# Altium footprint library my_pcblib.PcbLib: 8 footprints
Each footprint in its own frame and in the unit in brackets; x right, y up, seen from the top. Pads: shape width x height; smd on the part's side, far side on the other; paste and mask are expansions set on the pad; w line width, h text height; cw(c..) or ccw(c..) is an arc to the next point about the centre after c.
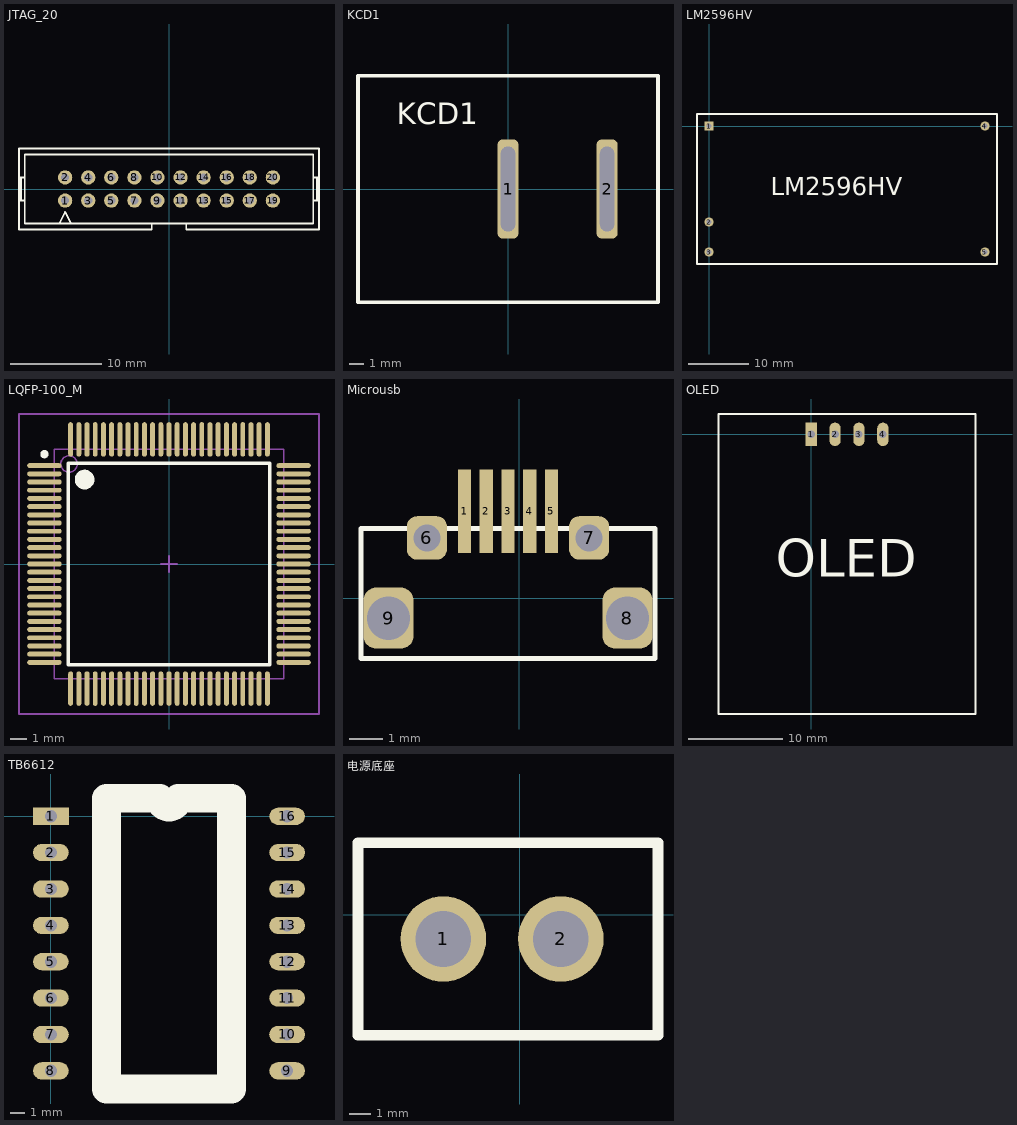
[diagram p0: the footprints below, top view; thin cyan lines are the x and y axes]

## JTAG_20 [mil]
pads (20):
  round 62 hole 35: 1(-450,-50) 2(-450,50) 3(-350,-50) 4(-350,50) 5(-250,-50) 6(-250,50) 7(-150,-50) 8(-150,50) 9(-50,-50) 10(-50,50) 11(50,-50) 12(50,50) 13(150,-50) 14(150,50) 15(250,-50) 16(250,50) 17(350,-50) 18(350,50) 19(450,-50) 20(450,50)
Top Overlay:
  lines w8: -650,-50 -625,-50 ; -650,50 -625,50 ; -641.67,-50 -641.67,50 ; -475,-150 -450,-100 -425,-150 ; -339.57,-175 -75,-175 -75,-150 ; -325,-175 -650,-175 -650,175 650,175 650,-175 325,-175 75,-175 75,-150 ; 625,-50 650,-50 ; 625,50 650,50 ; 641.67,-50 641.67,50 ; -75,-150 -625,-150 -625,150 625,150 625,-150 75,-150 ; -75,-150 75,-150

## KCD1 [mm]
pads (2):
  rrect50% 1.5x7 hole 6 slot 1 at 0 deg: 1(0,0) 2(7,0)
Top Overlay:
  lines w0.254: -10.6,-8 10.6,-8 10.6,8 -10.6,8 -10.6,-8
  text "KCD1" at -7.874,4.572 h1.52

## LM2596HV [mm]
pads (5):
  rect 1.5x1.5 hole 0.9: 1(0,0)
  round 1.5 hole 0.9: 2(0,-16) 3(0,-21) 4(46,0) 5(46,-21)
Top Overlay:
  lines w0.254: -2,-23 48,-23 48,2 -2,2 -2,-23
  text "LM2596HV" at 10.287,-11.557 h3

## LQFP-100_M [mm] "Thin QFP, 100"
height 1.6
pads (100):
  oval 2.1x0.3 smd: 1(-7.6,6) 2(-7.6,5.5) 3(-7.6,5) 4(-7.6,4.5) 5(-7.6,4) 6(-7.6,3.5) 7(-7.6,3) 8(-7.6,2.5) 9(-7.6,2) 10(-7.6,1.5) 11(-7.6,1) 12(-7.6,0.5) 13(-7.6,0) 14(-7.6,-0.5) 15(-7.6,-1) 16(-7.6,-1.5) 17(-7.6,-2) 18(-7.6,-2.5) 19(-7.6,-3) 20(-7.6,-3.5) 21(-7.6,-4) 22(-7.6,-4.5) 23(-7.6,-5) 24(-7.6,-5.5) 25(-7.6,-6) 51(7.6,-6) 52(7.6,-5.5) 53(7.6,-5) 54(7.6,-4.5) 55(7.6,-4) 56(7.6,-3.5) 57(7.6,-3) 58(7.6,-2.5) 59(7.6,-2) 60(7.6,-1.5) 61(7.6,-1) 62(7.6,-0.5) 63(7.6,0) 64(7.6,0.5) 65(7.6,1) 66(7.6,1.5) 67(7.6,2) 68(7.6,2.5) 69(7.6,3) 70(7.6,3.5) 71(7.6,4) 72(7.6,4.5) 73(7.6,5) 74(7.6,5.5) 75(7.6,6)
  oval 0.3x2.1 smd: 26(-6,-7.6) 27(-5.5,-7.6) 28(-5,-7.6) 29(-4.5,-7.6) 30(-4,-7.6) 31(-3.5,-7.6) 32(-3,-7.6) 33(-2.5,-7.6) 34(-2,-7.6) 35(-1.5,-7.6) 36(-1,-7.6) 37(-0.5,-7.6) 38(0,-7.6) 39(0.5,-7.6) 40(1,-7.6) 41(1.5,-7.6) 42(2,-7.6) 43(2.5,-7.6) 44(3,-7.6) 45(3.5,-7.6) 46(4,-7.6) 47(4.5,-7.6) 48(5,-7.6) 49(5.5,-7.6) 50(6,-7.6) 76(6,7.6) 77(5.5,7.6) 78(5,7.6) 79(4.5,7.6) 80(4,7.6) 81(3.5,7.6) 82(3,7.6) 83(2.5,7.6) 84(2,7.6) 85(1.5,7.6) 86(1,7.6) 87(0.5,7.6) 88(0,7.6) 89(-0.5,7.6) 90(-1,7.6) 91(-1.5,7.6) 92(-2,7.6) 93(-2.5,7.6) 94(-3,7.6) 95(-3.5,7.6) 96(-4,7.6) 97(-4.5,7.6) 98(-5,7.6) 99(-5.5,7.6) 100(-6,7.6)
Top Overlay:
  circle w0.6: c-5.15,5.15 r0.3
  circle w0.25: c-7.6,6.7 r0.125
  lines w0.2: -6.15,-6.15 6.15,-6.15 6.15,6.15 -6.15,6.15 -6.15,-6.15
Mechanical 13:
  circle w0.1: c-6.1,6.1 r0.5
  lines w0.1: -7,-7 7,-7 7,7 -7,7 -7,-7
Mechanical 15:
  lines w0.1: -0.5,0 0.5,0 ; 0,-0.5 0,0.5 ; -9.15,-9.15 9.15,-9.15 9.15,9.15 -9.15,9.15 -9.15,-9.15
3D body: height 0.8, standoff 0, extent -7,-7 7,7

## Microusb [mm]
pads (9):
  rect 0.4x2.5 smd: 1(-1.63,2.608) 2(-0.98,2.608) 3(-0.33,2.608) 4(0.32,2.608) 5(0.97,2.608)
  rrect50% 1.2x1.3 hole 0.8: 6(-2.755,1.808) 7(2.095,1.808)
  rrect50% 1.5x1.825 hole 1.3: 8(3.245,-0.592) 9(-3.905,-0.592)
Top Overlay:
  lines w0.15: -4.724,-1.803 4.064,-1.803 4.064,2.083 -4.724,2.083 -4.724,-1.803
3D body "48284.stp": height 2.71, standoff -0.23, extent -4.75,-3.247 4.05,2.485

## OLED [mm]
pads (4):
  rect 1.2x2.5 hole 0.8: 1(0,0)
  oval 1.2x2.5 hole 0.8: 2(2.54,0) 3(5.08,0) 4(7.62,0)
Top Overlay:
  lines w0.254: 17.46,1.5 17.46,2.16 16.2,2.16 15.12,2.16 -9.84,2.16 -9.84,1.08 -9.84,-1.5 -9.84,-27.8 -9.84,-29.7 16.2,-29.7 17.46,-29.7 17.46,1.62
  text "OLED" at -3.78,-15.12 h4

## TB6612 [mm]
pads (16):
  rect 2.5x1.2 hole 0.85: 1(0,0)
  oval 2.5x1.2 hole 0.85: 2(0,-2.54) 3(0,-5.08) 4(0,-7.62) 5(0,-10.16) 6(0,-12.7) 7(0,-15.24) 8(0,-17.78) 9(16.5,-17.78) 10(16.5,-15.24) 11(16.5,-12.7) 12(16.5,-10.16) 13(16.5,-7.62) 14(16.5,-5.08) 15(16.5,-2.54) 16(16.5,0)
Top Overlay:
  lines w2: 3.885,-19.05 12.615,-19.05 12.615,1.27 8.885,1.27 cw(c8.25,1.27) 7.615,1.27 3.885,1.27 3.885,-19.05

## 电源底座 [mm]
pads (2):
  round 4 hole 2.6: 1(-3.564,-1.138) 2(1.936,-1.138)
Top Overlay:
  lines w0.5: -7.564,-5.638 6.48,-5.638 6.48,-3.388 6.48,1.112 6.48,3.362 -7.564,3.362 -7.564,-5.638